# EAGLE library part AUDIO-SMD-6P (library Elecrow_Connector)
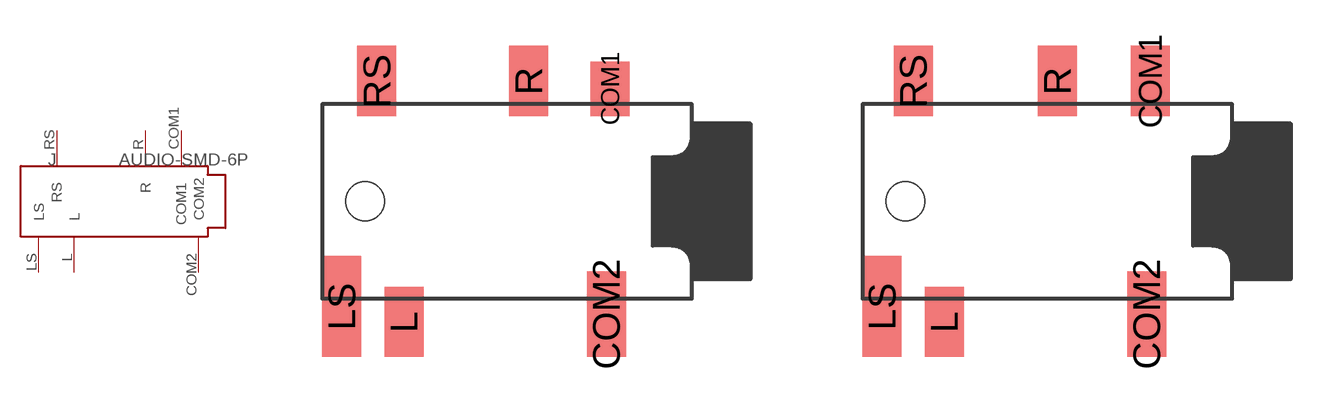
[diagram p28: symbol with the pads of 6P-SMD-3.5; footprints 6P-SMD-3.5, 6P-SMD-3.5-NEW]

Designator prefix J

## AUDIO-SMD-6P'3.5'  [6P-SMD-3.5]
COM1  COM1
COM2  COM2
L  L
LS  LS
R  R
RS  RS

## AUDIO-SMD-6P  [6P-SMD-3.5-NEW]
Pads as for 6P-SMD-3.5

## Footprint 6P-SMD-3.5 (pad centres in mm)
smd 1.27 x 1.778: COM1 -4.572,3.683
smd 1.27 x 2.794: COM2 -4.699,-3.683
smd 1.27 x 2.286: L -11.303,-3.937; R -7.239,3.937; RS -12.192,3.937
smd 1.27 x 3.302: LS -13.335,-3.429
hole 1.27 at -12.573,0

## Footprint 6P-SMD-3.5-NEW (pad centres in mm)
smd 1.27 x 2.286: COM1 -4.572,3.937; L -11.303,-3.937; R -7.62,3.937; RS -12.319,3.937
smd 1.27 x 2.794: COM2 -4.699,-3.683
smd 1.27 x 3.302: LS -13.335,-3.429
hole 1.27 at -12.573,0